# Altium schematic symbol library SG_SCH_Mechanical.SchLib: 18 symbols
Pins are listed as number, name and electrical type; pins without a type are passive.

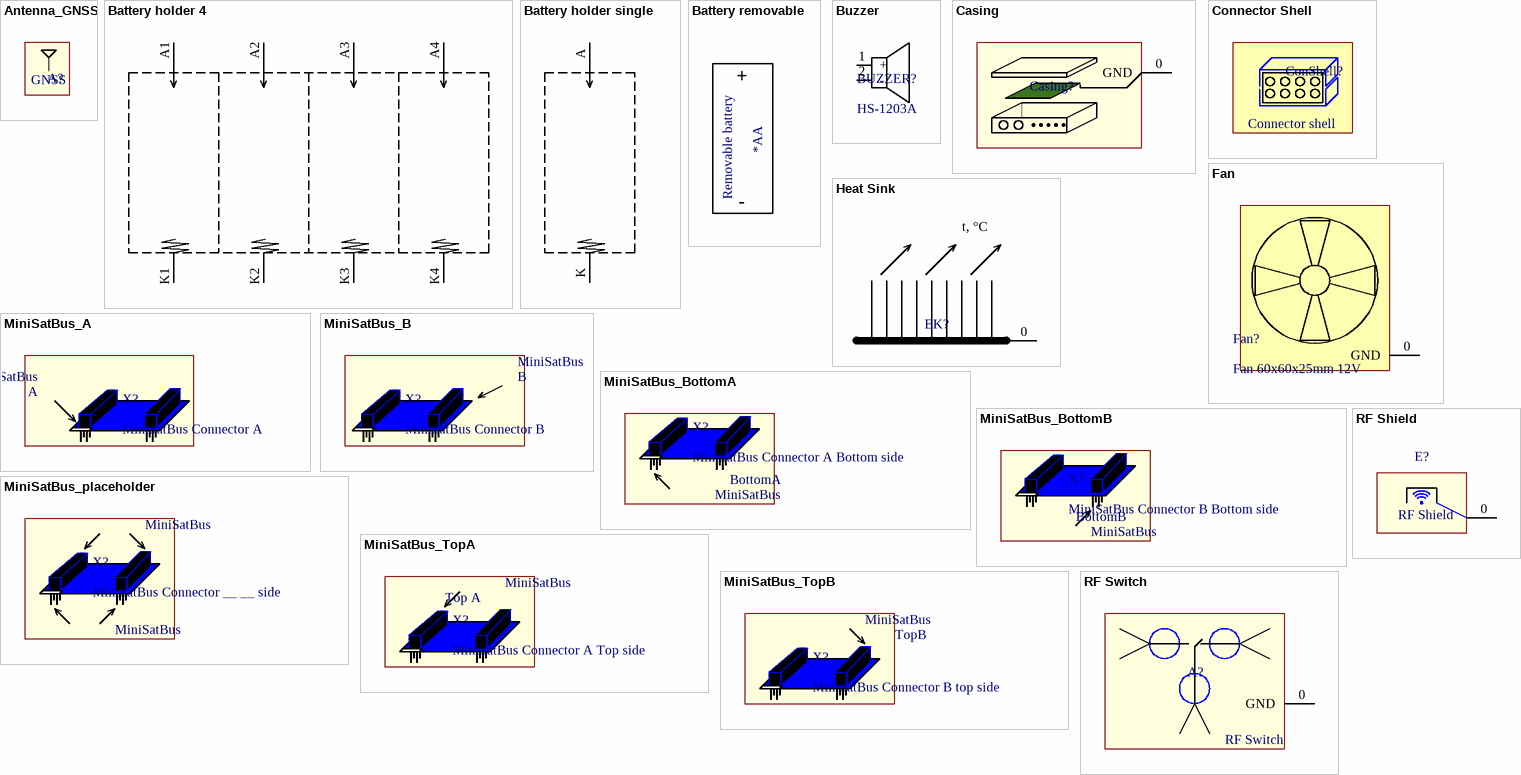
[diagram p0: symbols Antenna_GNSS to RF Switch]

## Antenna_GNSS
designator A?, comment Ant_PCB  (value not drawn)
GNSS Antenna, board mount; Order: *
footprint BT-25C GNSS ANT (GNSS antenna)
text: GNSS

## Battery holder 4
designator BatH?, comment *L-KLS5-18650-004-D  (value not drawn)
Removable battery holder; Order: *L-KLS5-18650-004-D
footprint L-KLS5-18650-004-D (Footprint not found)
pins: A1, A2, A3, A4, K1, K2, K3, K4

## Battery holder single
designator BatH?, comment *BH311  (value not drawn)
Removable battery holder; Order: *BH311
footprint BH311 (Battery holder AA)
pins: A, K

## Battery removable
designator Bat?, comment FormFactor: *AA  (hidden comment: Additional order)  (mechanical)
Removable battery. Have no PCB representation or have just 3d model; Order: *
text: +; Removable battery; -

## Buzzer
designator BUZZER?, comment HS-1203A
Buzzer; Order: *HS-1203A
footprint HS-1203A
pins: 1 +, 2 -

## Casing
designator Casing?  (value not drawn)
Casing for the PCB. Can be grounded; Order: *
pins: 0 GND (power)

## Connector Shell
designator ConShell?, comment Connector shell  (value not drawn)
Order: *L-KLS1-DB-25P-L-G
footprint DB-25 shell

## Fan
designator Fan?, comment Fan 60x60x25mm 12V
Board mount FAN; Order: *
footprint FAN 60x60x25 vertical
pins: 0 GND

## Heat Sink
designator EK?, comment Heat sink  (value not drawn)
pins: 0
text: t, °C

## MiniSatBus_A
designator X?, comment MiniSatBus Connector A
Bus connector for MIniSat; Order: *2.54 2x12P PC104-like connector
footprint MiniSatPlaceholderTH (Footprint not found)
text: MiniSatBus; A

## MiniSatBus_B
designator X?, comment MiniSatBus Connector B
Bus connector for MIniSat; Order: *2.54 2x12P PC104-like connector
footprint MiniSatPlaceholderTH (Footprint not found)
text: MiniSatBus; B

## MiniSatBus_BottomA
designator X?, comment MiniSatBus Connector A Bottom side
Bus connector for MIniSat; Order: *2.54 SMD Male 2x12P
footprint MiniSatPlaceholderBottom
text: BottomA; MiniSatBus

## MiniSatBus_BottomB
designator X?, comment MiniSatBus Connector B Bottom side
Bus connector for MIniSat; Order: *2.54 SMD Male 2x12P
footprint MiniSatPlaceholderBottom
text: BottomB; MiniSatBus

## MiniSatBus_placeholder
designator X?, comment MiniSatBus Connector __ __ side
Bus connector for MIniSat; Order: *
text: MiniSatBus

## MiniSatBus_TopA
designator X?, comment MiniSatBus Connector A Top side
Bus connector for MIniSat; Order: *2.54 SMD Female 2x12P
footprint MiniSatPlaceholderTop
text: MiniSatBus; Top A

## MiniSatBus_TopB
designator X?, comment MiniSatBus Connector B top side
Bus connector for MIniSat; Order: *2.54 SMD Female 2x12P
footprint MiniSatPlaceholderTop
text: MiniSatBus; TopB

## RF Shield
designator E?, comment Ant_PCB  (value not drawn)
Shield to prevent EMI from RF PCB parts; Order: *
pins: 0

## RF Switch
designator A?, comment Ant_PCB  (value not drawn)
PCB mounted RF switch; Order: *
pins: 0 GND (power)